# EAGLE library part XCV200ES_FG256 (library xilinx-xcv)
xcv200es_fg256 edit this description Auto generated by make-symbol-device-package-bsdl.ulp Rev. 26 Source: xcv200es_fg256.bsd
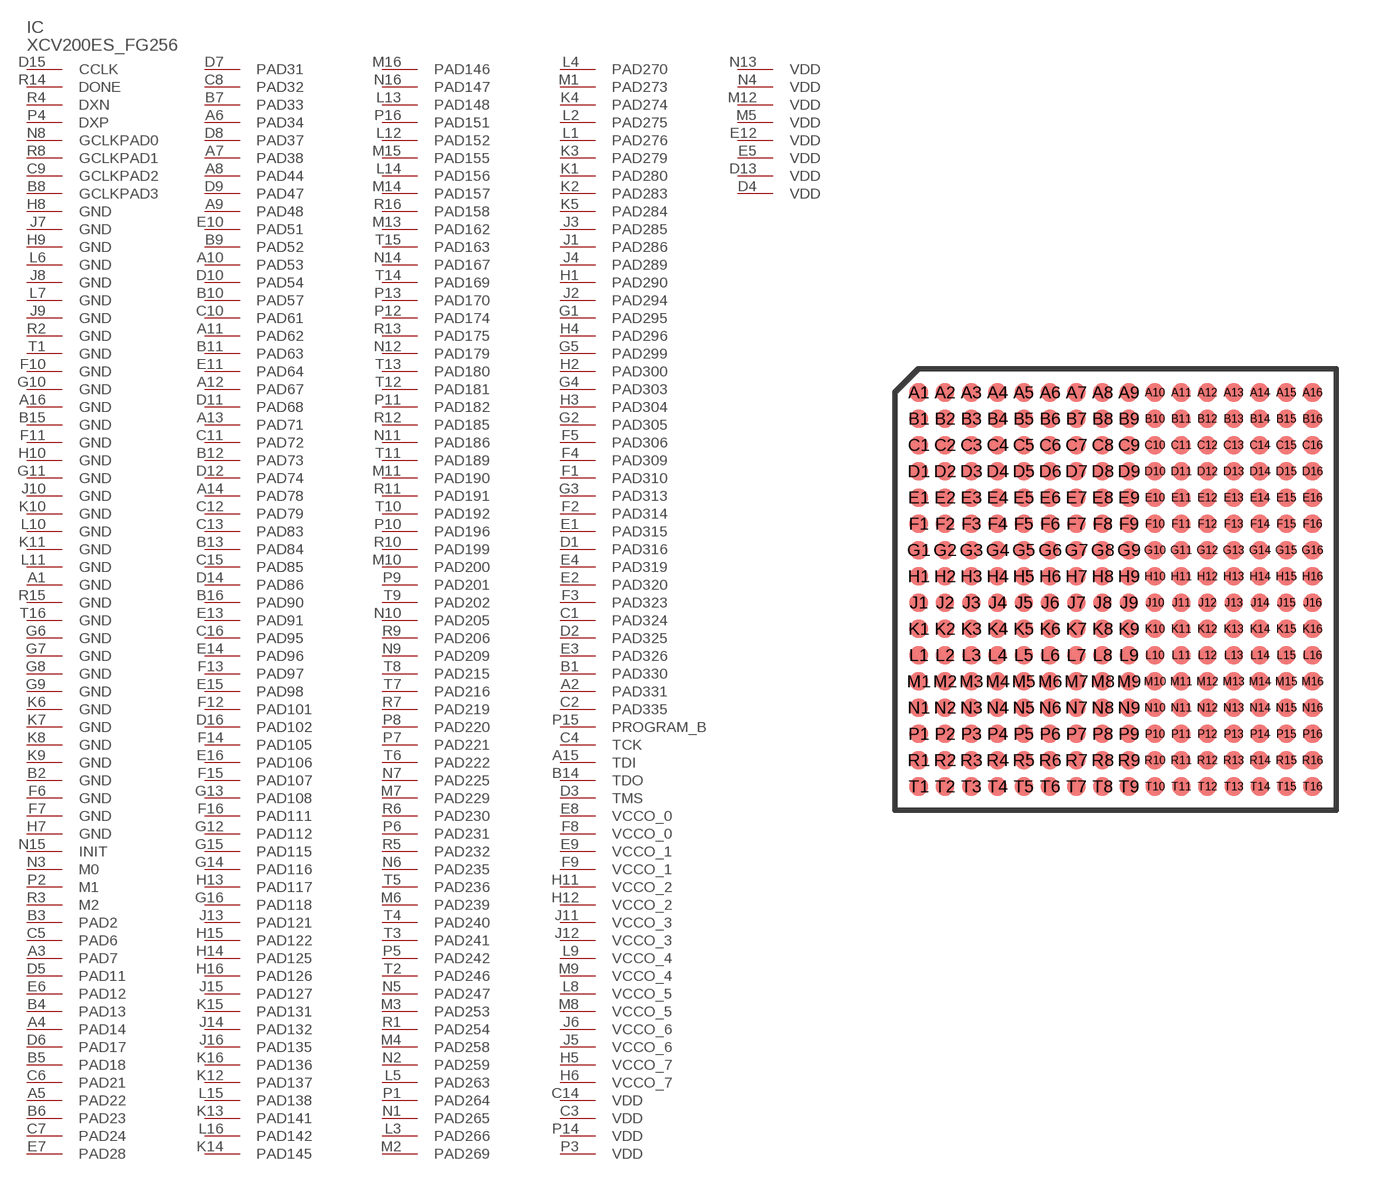
[diagram p62: symbol with the pads of FG256; footprint FG256]

Designator prefix IC

## XCV200ES_FG256 (OC_FARNELL: unknown; OC_NEWARK: unknown)  [FG256]
A1  GND  pwr
A2  PAD331
A3  PAD7
A4  PAD14
A5  PAD22
A6  PAD34
A7  PAD38
A8  PAD44
A9  PAD48
A10  PAD53
A11  PAD62
A12  PAD67
A13  PAD71
A14  PAD78
A15  TDI  in
A16  GND  pwr
B1  PAD330
B2  GND  pwr
B3  PAD2
B4  PAD13
B5  PAD18
B6  PAD23
B7  PAD33
B8  GCLKPAD3  in
B9  PAD52
B10  PAD57
B11  PAD63
B12  PAD73
B13  PAD84
B14  TDO  out
B15  GND  pwr
B16  PAD90
C1  PAD324
C2  PAD335
C3  VDD  pwr
C4  TCK  in
C5  PAD6
C6  PAD21
C7  PAD24
C8  PAD32
C9  GCLKPAD2  in
C10  PAD61
C11  PAD72
C12  PAD79
C13  PAD83
C14  VDD  pwr
C15  PAD85
C16  PAD95
D1  PAD316
D2  PAD325
D3  TMS  in
D4  VDD  pwr
D5  PAD11
D6  PAD17
D7  PAD31
D8  PAD37
D9  PAD47
D10  PAD54
D11  PAD68
D12  PAD74
D13  VDD  pwr
D14  PAD86
D15  CCLK
D16  PAD102
E1  PAD315
E2  PAD320
E3  PAD326
E4  PAD319
E5  VDD  pwr
E6  PAD12
E7  PAD28
E8  VCCO_0  pwr
E9  VCCO_1  pwr
E10  PAD51
E11  PAD64
E12  VDD  pwr
E13  PAD91
E14  PAD96
E15  PAD98
E16  PAD106
F1  PAD310
F2  PAD314
F3  PAD323
F4  PAD309
F5  PAD306
F6  GND  pwr
F7  GND  pwr
F8  VCCO_0  pwr
F9  VCCO_1  pwr
F10  GND  pwr
F11  GND  pwr
F12  PAD101
F13  PAD97
F14  PAD105
F15  PAD107
F16  PAD111
G1  PAD295
G2  PAD305
G3  PAD313
G4  PAD303
G5  PAD299
G6  GND  pwr
G7  GND  pwr
G8  GND  pwr
G9  GND  pwr
G10  GND  pwr
G11  GND  pwr
G12  PAD112
G13  PAD108
G14  PAD116
G15  PAD115
G16  PAD118
H1  PAD290
H2  PAD300
H3  PAD304
H4  PAD296
H5  VCCO_7  pwr
H6  VCCO_7  pwr
H7  GND  pwr
H8  GND  pwr
H9  GND  pwr
H10  GND  pwr
H11  VCCO_2  pwr
H12  VCCO_2  pwr
H13  PAD117
H14  PAD125
H15  PAD122
H16  PAD126
J1  PAD286
J2  PAD294
J3  PAD285
J4  PAD289
J5  VCCO_6  pwr
J6  VCCO_6  pwr
J7  GND  pwr
J8  GND  pwr
J9  GND  pwr
J10  GND  pwr
J11  VCCO_3  pwr
J12  VCCO_3  pwr
J13  PAD121
J14  PAD132
J15  PAD127
J16  PAD135
K1  PAD280
K2  PAD283
K3  PAD279
K4  PAD274
K5  PAD284
K6  GND  pwr
K7  GND  pwr
K8  GND  pwr
K9  GND  pwr
K10  GND  pwr
K11  GND  pwr
K12  PAD137
K13  PAD141
K14  PAD145
K15  PAD131
K16  PAD136
L1  PAD276
L2  PAD275
L3  PAD266
L4  PAD270
L5  PAD263
L6  GND  pwr
L7  GND  pwr
L8  VCCO_5  pwr
L9  VCCO_4  pwr
L10  GND  pwr
L11  GND  pwr
L12  PAD152
L13  PAD148
L14  PAD156
L15  PAD138
L16  PAD142
M1  PAD273
M2  PAD269
M3  PAD253
M4  PAD258
M5  VDD  pwr
M6  PAD239
M7  PAD229
M8  VCCO_5  pwr
M9  VCCO_4  pwr
M10  PAD200
M11  PAD190
M12  VDD  pwr
M13  PAD162
M14  PAD157
M15  PAD155
M16  PAD146
N1  PAD265
N2  PAD259
N3  M0  in
N4  VDD  pwr
N5  PAD247
N6  PAD235
N7  PAD225
N8  GCLKPAD0  in
N9  PAD209
N10  PAD205
N11  PAD186
N12  PAD179
N13  VDD  pwr
N14  PAD167
N15  INIT
N16  PAD147
P1  PAD264
P2  M1  in
P3  VDD  pwr
P4  DXP  pas
P5  PAD242
P6  PAD231
P7  PAD221
P8  PAD220
P9  PAD201
P10  PAD196
P11  PAD182
P12  PAD174
P13  PAD170
P14  VDD  pwr
P15  PROGRAM_B  in
P16  PAD151
R1  PAD254
R2  GND  pwr
R3  M2  in
R4  DXN  pas
R5  PAD232
R6  PAD230
R7  PAD219
R8  GCLKPAD1  in
R9  PAD206
R10  PAD199
R11  PAD191
R12  PAD185
R13  PAD175
R14  DONE
R15  GND  pwr
R16  PAD158
T1  GND  pwr
T2  PAD246
T3  PAD241
T4  PAD240
T5  PAD236
T6  PAD222
T7  PAD216
T8  PAD215
T9  PAD202
T10  PAD192
T11  PAD189
T12  PAD181
T13  PAD180
T14  PAD169
T15  PAD163
T16  GND  pwr

## Footprint FG256 (pad centres in mm)
Fine Pitch BGA (FG256) Auto generated by make-symbol-device-package-bsdl.ulp Rev. 26 Source: xcv100_fg256.bsd; fg256.pdf
smd 0.7 x 0.7: A1 -7.5,7.5; A2 -6.5,7.5; A3 -5.5,7.5; A4 -4.5,7.5; A5 -3.5,7.5; A6 -2.5,7.5; A7 -1.5,7.5; A8 -0.5,7.5; A9 0.5,7.5; A10 1.5,7.5; A11 2.5,7.5; A12 3.5,7.5; A13 4.5,7.5; A14 5.5,7.5; A15 6.5,7.5; A16 7.5,7.5; B1 -7.5,6.5; B2 -6.5,6.5; B3 -5.5,6.5; B4 -4.5,6.5; B5 -3.5,6.5; B6 -2.5,6.5; B7 -1.5,6.5; B8 -0.5,6.5; B9 0.5,6.5; B10 1.5,6.5; B11 2.5,6.5; B12 3.5,6.5; B13 4.5,6.5; B14 5.5,6.5; B15 6.5,6.5; B16 7.5,6.5; C1 -7.5,5.5; C2 -6.5,5.5; C3 -5.5,5.5; C4 -4.5,5.5; C5 -3.5,5.5; C6 -2.5,5.5; C7 -1.5,5.5; C8 -0.5,5.5; C9 0.5,5.5; C10 1.5,5.5; C11 2.5,5.5; C12 3.5,5.5; C13 4.5,5.5; C14 5.5,5.5; C15 6.5,5.5; C16 7.5,5.5; D1 -7.5,4.5; D2 -6.5,4.5; D3 -5.5,4.5; D4 -4.5,4.5; D5 -3.5,4.5; D6 -2.5,4.5; D7 -1.5,4.5; D8 -0.5,4.5; D9 0.5,4.5; D10 1.5,4.5; D11 2.5,4.5; D12 3.5,4.5; D13 4.5,4.5; D14 5.5,4.5; D15 6.5,4.5; D16 7.5,4.5; E1 -7.5,3.5; E2 -6.5,3.5; E3 -5.5,3.5; E4 -4.5,3.5; E5 -3.5,3.5; E6 -2.5,3.5; E7 -1.5,3.5; E8 -0.5,3.5; E9 0.5,3.5; E10 1.5,3.5; E11 2.5,3.5; E12 3.5,3.5; E13 4.5,3.5; E14 5.5,3.5; E15 6.5,3.5; E16 7.5,3.5; F1 -7.5,2.5; F2 -6.5,2.5; F3 -5.5,2.5; F4 -4.5,2.5; F5 -3.5,2.5; F6 -2.5,2.5; F7 -1.5,2.5; F8 -0.5,2.5; F9 0.5,2.5; F10 1.5,2.5; F11 2.5,2.5; F12 3.5,2.5; F13 4.5,2.5; F14 5.5,2.5; F15 6.5,2.5; F16 7.5,2.5; G1 -7.5,1.5; G2 -6.5,1.5; G3 -5.5,1.5; G4 -4.5,1.5; G5 -3.5,1.5; G6 -2.5,1.5; G7 -1.5,1.5; G8 -0.5,1.5; G9 0.5,1.5; G10 1.5,1.5; G11 2.5,1.5; G12 3.5,1.5; G13 4.5,1.5; G14 5.5,1.5; G15 6.5,1.5; G16 7.5,1.5; H1 -7.5,0.5; H2 -6.5,0.5; H3 -5.5,0.5; H4 -4.5,0.5; H5 -3.5,0.5; H6 -2.5,0.5; H7 -1.5,0.5; H8 -0.5,0.5; H9 0.5,0.5; H10 1.5,0.5; H11 2.5,0.5; H12 3.5,0.5; H13 4.5,0.5; H14 5.5,0.5; H15 6.5,0.5; H16 7.5,0.5; J1 -7.5,-0.5; J2 -6.5,-0.5; J3 -5.5,-0.5; J4 -4.5,-0.5; J5 -3.5,-0.5; J6 -2.5,-0.5; J7 -1.5,-0.5; J8 -0.5,-0.5; J9 0.5,-0.5; J10 1.5,-0.5; J11 2.5,-0.5; J12 3.5,-0.5; J13 4.5,-0.5; J14 5.5,-0.5; J15 6.5,-0.5; J16 7.5,-0.5; K1 -7.5,-1.5; K2 -6.5,-1.5; K3 -5.5,-1.5; K4 -4.5,-1.5; K5 -3.5,-1.5; K6 -2.5,-1.5; K7 -1.5,-1.5; K8 -0.5,-1.5; K9 0.5,-1.5; K10 1.5,-1.5; K11 2.5,-1.5; K12 3.5,-1.5; K13 4.5,-1.5; K14 5.5,-1.5; K15 6.5,-1.5; K16 7.5,-1.5; L1 -7.5,-2.5; L2 -6.5,-2.5; L3 -5.5,-2.5; L4 -4.5,-2.5; L5 -3.5,-2.5; L6 -2.5,-2.5; L7 -1.5,-2.5; L8 -0.5,-2.5; L9 0.5,-2.5; L10 1.5,-2.5; L11 2.5,-2.5; L12 3.5,-2.5; L13 4.5,-2.5; L14 5.5,-2.5; L15 6.5,-2.5; L16 7.5,-2.5; M1 -7.5,-3.5; M2 -6.5,-3.5; M3 -5.5,-3.5; M4 -4.5,-3.5; M5 -3.5,-3.5; M6 -2.5,-3.5; M7 -1.5,-3.5; M8 -0.5,-3.5; M9 0.5,-3.5; M10 1.5,-3.5; M11 2.5,-3.5; M12 3.5,-3.5; M13 4.5,-3.5; M14 5.5,-3.5; M15 6.5,-3.5; M16 7.5,-3.5; N1 -7.5,-4.5; N2 -6.5,-4.5; N3 -5.5,-4.5; N4 -4.5,-4.5; N5 -3.5,-4.5; N6 -2.5,-4.5; N7 -1.5,-4.5; N8 -0.5,-4.5; N9 0.5,-4.5; N10 1.5,-4.5; N11 2.5,-4.5; N12 3.5,-4.5; N13 4.5,-4.5; N14 5.5,-4.5; N15 6.5,-4.5; N16 7.5,-4.5; P1 -7.5,-5.5; P2 -6.5,-5.5; P3 -5.5,-5.5; P4 -4.5,-5.5; P5 -3.5,-5.5; P6 -2.5,-5.5; P7 -1.5,-5.5; P8 -0.5,-5.5; P9 0.5,-5.5; P10 1.5,-5.5; P11 2.5,-5.5; P12 3.5,-5.5; P13 4.5,-5.5; P14 5.5,-5.5; P15 6.5,-5.5; P16 7.5,-5.5; R1 -7.5,-6.5; R2 -6.5,-6.5; R3 -5.5,-6.5; R4 -4.5,-6.5; R5 -3.5,-6.5; R6 -2.5,-6.5; R7 -1.5,-6.5; R8 -0.5,-6.5; R9 0.5,-6.5; R10 1.5,-6.5; R11 2.5,-6.5; R12 3.5,-6.5; R13 4.5,-6.5; R14 5.5,-6.5; R15 6.5,-6.5; R16 7.5,-6.5; T1 -7.5,-7.5; T2 -6.5,-7.5; T3 -5.5,-7.5; T4 -4.5,-7.5; T5 -3.5,-7.5; T6 -2.5,-7.5; T7 -1.5,-7.5; T8 -0.5,-7.5; T9 0.5,-7.5; T10 1.5,-7.5; T11 2.5,-7.5; T12 3.5,-7.5; T13 4.5,-7.5; T14 5.5,-7.5; T15 6.5,-7.5; T16 7.5,-7.5